# EAGLE library part PAC1952-1 (library Microchip)
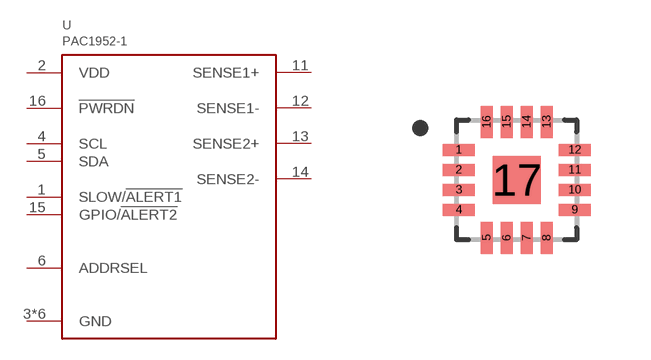
[diagram p58: symbol with the pads of QFN16; footprint QFN16]

Designator prefix -

## PAC1952-1  [QFN16]
1  SLOW/!ALERT1!
2  VDD
3  GND
4  SCL
5  SDA
6  ADDRSEL
7  GND
8  GND
9  GND
10  GND
11  SENSE1+
12  SENSE1-
13  SENSE2+
14  SENSE2-
15  GPIO/!ALERT2!
16  !PWRDN
17  GND

## Footprint QFN16 (pad centres in mm)
smd 0.8 x 0.3: 1 -1.45,0.75; 2 -1.45,0.25; 3 -1.45,-0.25; 4 -1.45,-0.75; 9 1.45,-0.75; 10 1.45,-0.25; 11 1.45,0.25; 12 1.45,0.75
smd 0.3 x 0.8: 5 -0.75,-1.45; 6 -0.25,-1.45; 7 0.25,-1.45; 8 0.75,-1.45; 13 0.75,1.45; 14 0.25,1.45; 15 -0.25,1.45; 16 -0.75,1.45
smd 1.2 x 1.2: 17 0,0